# Altium integrated library RFX2401C.IntLib: 1 symbol
Pins are listed as number, name and electrical type; pins without a type are passive.

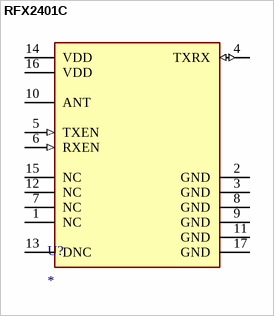
[diagram p0: symbol RFX2401C]

## RFX2401C
designator U?
No Description Available; Mfr_Name: Skyworks; RefDes: RefDes; Type: Type
footprint RFX2401C_SKY
pins: 1 NC, 2 GND (power), 3 GND (power), 4 TXRX (io), 5 TXEN (in), 6 RXEN (in), 7 NC, 8 GND (power), 9 GND (power), 10 ANT, 11 GND (power), 12 NC, 13 DNC, 14 VDD (power), 15 NC, 16 VDD (power), 17 GND (power)